# EAGLE library part MTFC4GLDEA (library MTFC4GLDEA0M)
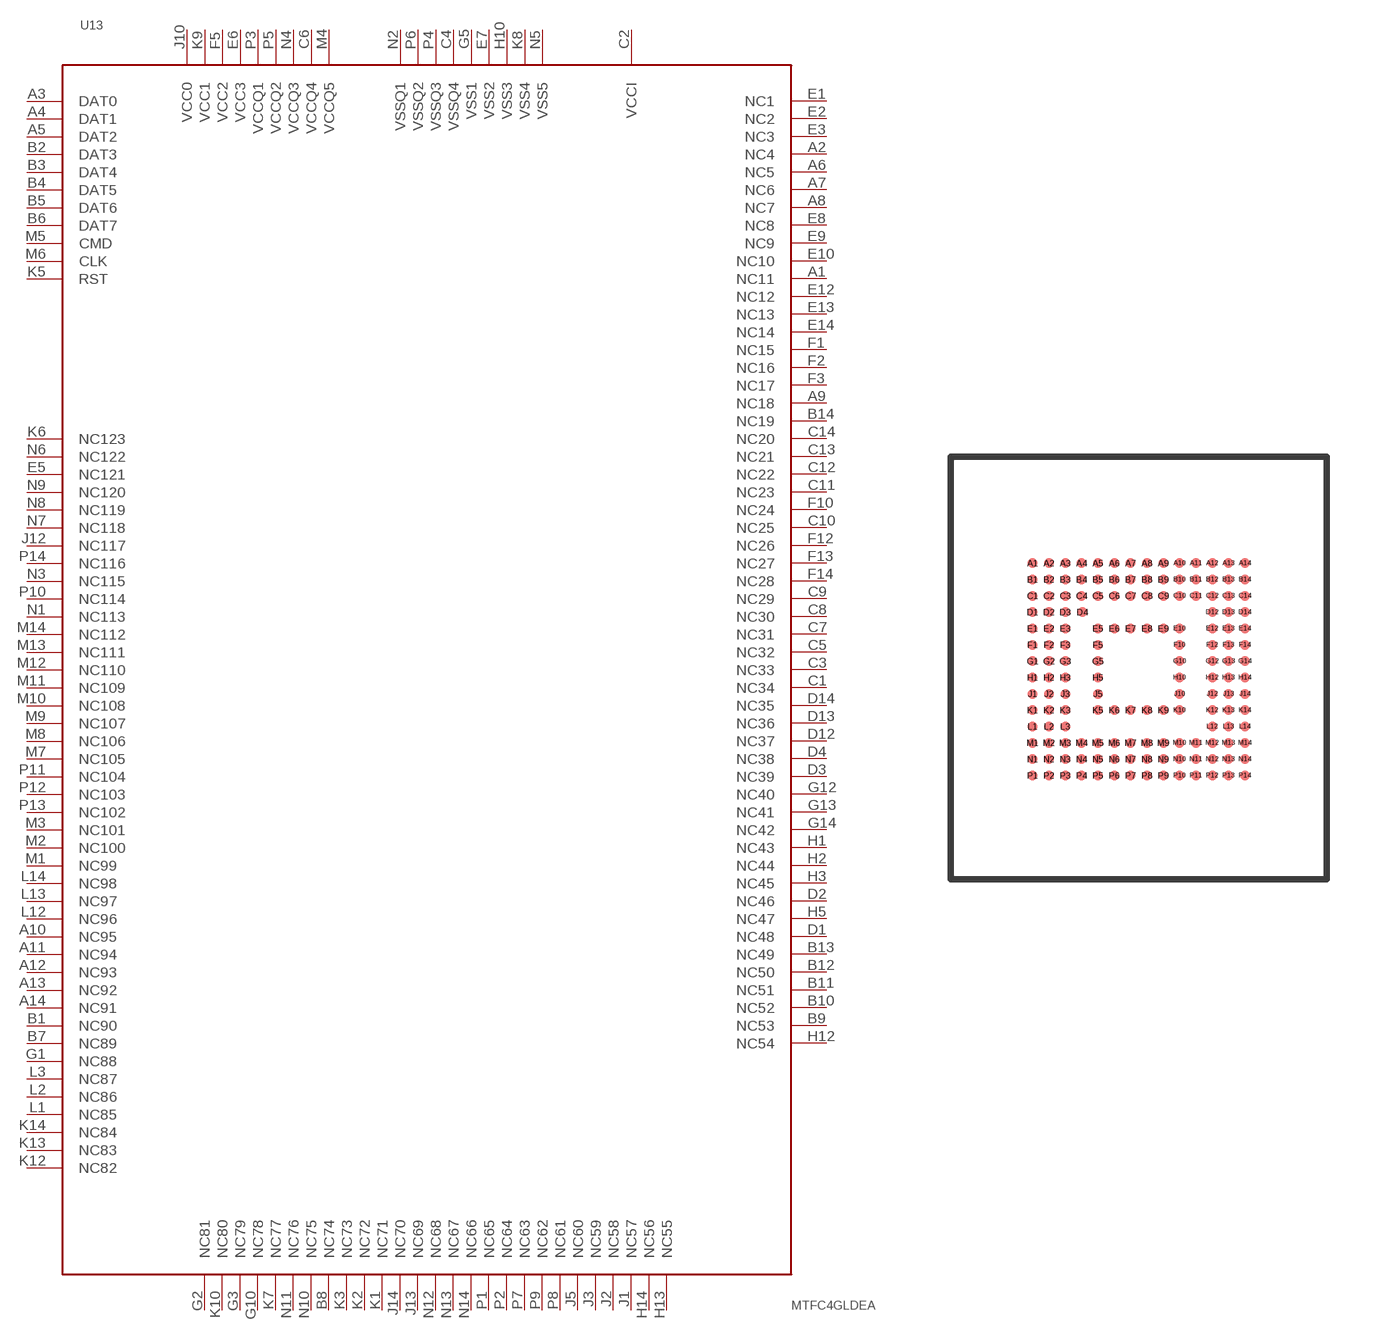
[diagram p0: symbol with the pads of MTFC4GLDEA; footprint MTFC4GLDEA]

Designator prefix -

## MTFC4GLDEA  [MTFC4GLDEA]
A1  NC11
A2  NC4
A3  DAT0
A4  DAT1
A5  DAT2
A6  NC5
A7  NC6
A8  NC7
A9  NC18
A10  NC95
A11  NC94
A12  NC93
A13  NC92
A14  NC91
B1  NC90
B2  DAT3
B3  DAT4
B4  DAT5
B5  DAT6
B6  DAT7
B7  NC89
B8  NC74
B9  NC53
B10  NC52
B11  NC51
B12  NC50
B13  NC49
B14  NC19
C1  NC34
C2  VCCI
C3  NC33
C4  VSSQ4
C5  NC32
C6  VCCQ4
C7  NC31
C8  NC30
C9  NC29
C10  NC25
C11  NC23
C12  NC22
C13  NC21
C14  NC20
D1  NC48
D2  NC46
D3  NC39
D4  NC38
D12  NC37
D13  NC36
D14  NC35
E1  NC1
E2  NC2
E3  NC3
E5  NC121
E6  VCC3
E7  VSS2
E8  NC8
E9  NC9
E10  NC10
E12  NC12
E13  NC13
E14  NC14
F1  NC15
F2  NC16
F3  NC17
F5  VCC2
F10  NC24
F12  NC26
F13  NC27
F14  NC28
G1  NC88
G2  NC81
G3  NC79
G5  VSS1
G10  NC78
G12  NC40
G13  NC41
G14  NC42
H1  NC43
H2  NC44
H3  NC45
H5  NC47
H10  VSS3
H12  NC54
H13  NC55
H14  NC56
J1  NC57
J2  NC58
J3  NC59
J5  NC60
J10  VCC0
J12  NC117
J13  NC69
J14  NC70
K1  NC71
K2  NC72
K3  NC73
K5  RST
K6  NC123
K7  NC77
K8  VSS4
K9  VCC1
K10  NC80
K12  NC82
K13  NC83
K14  NC84
L1  NC85
L2  NC86
L3  NC87
L12  NC96
L13  NC97
L14  NC98
M1  NC99
M2  NC100
M3  NC101
M4  VCCQ5
M5  CMD
M6  CLK
M7  NC105
M8  NC106
M9  NC107
M10  NC108
M11  NC109
M12  NC110
M13  NC111
M14  NC112
N1  NC113
N2  VSSQ1
N3  NC115
N4  VCCQ3
N5  VSS5
N6  NC122
N7  NC118
N8  NC119
N9  NC120
N10  NC75
N11  NC76
N12  NC68
N13  NC67
N14  NC66
P1  NC65
P2  NC64
P3  VCCQ1
P4  VSSQ3
P5  VCCQ2
P6  VSSQ2
P7  NC63
P8  NC61
P9  NC62
P10  NC114
P11  NC104
P12  NC103
P13  NC102
P14  NC116

## Footprint MTFC4GLDEA (pad centres in mm)
smd 0.3 x 0.3: A1 -3.25,3.25; A2 -2.75,3.25; A3 -2.25,3.25; A4 -1.75,3.25; A5 -1.25,3.25; A6 -0.75,3.25; A7 -0.25,3.25; A8 0.25,3.25; A9 0.75,3.25; A10 1.25,3.25; A11 1.75,3.25; A12 2.25,3.25; A13 2.75,3.25; A14 3.25,3.25; B1 -3.25,2.75; B2 -2.75,2.75; B3 -2.25,2.75; B4 -1.75,2.75; B5 -1.25,2.75; B6 -0.75,2.75; B7 -0.25,2.75; B8 0.25,2.75; B9 0.75,2.75; B10 1.25,2.75; B11 1.75,2.75; B12 2.25,2.75; B13 2.75,2.75; B14 3.25,2.75; C1 -3.25,2.25; C2 -2.75,2.25; C3 -2.25,2.25; C4 -1.75,2.25; C5 -1.25,2.25; C6 -0.75,2.25; C7 -0.25,2.25; C8 0.25,2.25; C9 0.75,2.25; C10 1.25,2.25; C11 1.75,2.25; C12 2.25,2.25; C13 2.75,2.25; C14 3.25,2.25; D1 -3.25,1.75; D2 -2.75,1.75; D3 -2.25,1.75; D4 -1.727,1.75; D12 2.25,1.75; D13 2.75,1.75; D14 3.25,1.75; E1 -3.25,1.25; E2 -2.75,1.25; E3 -2.25,1.25; E5 -1.25,1.25; E6 -0.75,1.25; E7 -0.25,1.25; E8 0.25,1.25; E9 0.75,1.25; E10 1.25,1.25; E12 2.25,1.25; E13 2.75,1.25; E14 3.25,1.25; F1 -3.25,0.75; F2 -2.75,0.75; F3 -2.25,0.75; F5 -1.25,0.75; F10 1.25,0.75; F12 2.25,0.75; F13 2.75,0.75; F14 3.25,0.75; G1 -3.25,0.25; G2 -2.75,0.25; G3 -2.25,0.25; G5 -1.25,0.25; G10 1.25,0.25; G12 2.25,0.25; G13 2.75,0.25; G14 3.25,0.25; H1 -3.25,-0.25; H2 -2.75,-0.25; H3 -2.25,-0.25; H5 -1.25,-0.25; H10 1.25,-0.25; H12 2.25,-0.25; H13 2.75,-0.25; H14 3.25,-0.25; J1 -3.25,-0.75; J2 -2.75,-0.75; J3 -2.25,-0.75; J5 -1.25,-0.75; J10 1.25,-0.75; J12 2.25,-0.75; J13 2.75,-0.75; J14 3.25,-0.75; K1 -3.25,-1.25; K2 -2.75,-1.25; K3 -2.25,-1.25; K5 -1.25,-1.25; K6 -0.75,-1.25; K7 -0.25,-1.25; K8 0.25,-1.25; K9 0.75,-1.25; K10 1.25,-1.25; K12 2.25,-1.25; K13 2.75,-1.25; K14 3.25,-1.25; L1 -3.25,-1.75; L2 -2.75,-1.75; L3 -2.25,-1.75; L12 2.25,-1.75; L13 2.75,-1.75; L14 3.25,-1.75; M1 -3.25,-2.25; M2 -2.75,-2.25; M3 -2.25,-2.25; M4 -1.75,-2.25; M5 -1.25,-2.25; M6 -0.75,-2.25; M7 -0.25,-2.25; M8 0.25,-2.25; M9 0.75,-2.25; M10 1.25,-2.25; M11 1.75,-2.25; M12 2.25,-2.25; M13 2.75,-2.25; M14 3.25,-2.25; N1 -3.25,-2.75; N2 -2.75,-2.75; N3 -2.25,-2.75; N4 -1.75,-2.75; N5 -1.25,-2.75; N6 -0.75,-2.75; N7 -0.25,-2.75; N8 0.25,-2.75; N9 0.75,-2.75; N10 1.25,-2.75; N11 1.75,-2.75; N12 2.25,-2.75; N13 2.75,-2.75; N14 3.25,-2.75; P1 -3.25,-3.25; P2 -2.75,-3.25; P3 -2.25,-3.25; P4 -1.75,-3.25; P5 -1.25,-3.25; P6 -0.75,-3.25; P7 -0.25,-3.25; P8 0.25,-3.25; P9 0.75,-3.25; P10 1.25,-3.25; P11 1.75,-3.25; P12 2.25,-3.25; P13 2.75,-3.25; P14 3.25,-3.25